# Altium schematic symbol library stm32h563rgt6.SchLib: 1 symbol
Pins are listed as number, name and electrical type; pins without a type are passive.

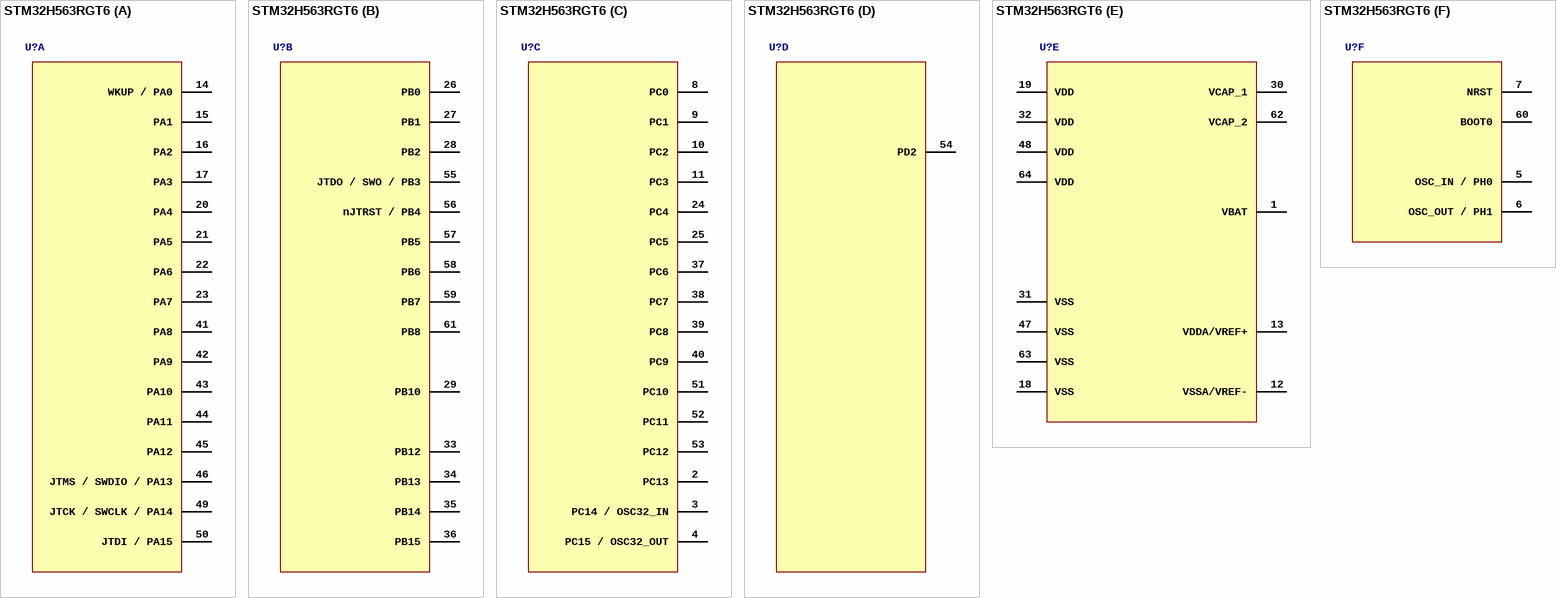
[diagram p0: symbol STM32H563RGT6]

## STM32H563RGT6
designator U?
ARM® Cortex®-M33 STM32H5 Microcontroller IC 32-Bit 250MHz 1MB (1M x 8) FLASH 64-LQFP (10x10)
part A pins: 14 WKUP / PA0, 15 PA1, 16 PA2, 17 PA3, 20 PA4, 21 PA5, 22 PA6, 23 PA7, 41 PA8, 42 PA9, 43 PA10, 44 PA11, 45 PA12, 46 JTMS / SWDIO / PA13, 49 JTCK / SWCLK / PA14, 50 JTDI / PA15
part B pins: 26 PB0, 27 PB1, 28 PB2, 29 PB10, 33 PB12, 34 PB13, 35 PB14, 36 PB15, 55 JTDO / SWO / PB3, 56 nJTRST / PB4, 57 PB5, 58 PB6, 59 PB7, 61 PB8
part C pins: 2 PC13, 3 PC14 / OSC32_IN, 4 PC15 / OSC32_OUT, 8 PC0, 9 PC1, 10 PC2, 11 PC3, 24 PC4, 25 PC5, 37 PC6, 38 PC7, 39 PC8, 40 PC9, 51 PC10, 52 PC11, 53 PC12
part D pins: 54 PD2
part E pins: 1 VBAT, 12 VSSA/VREF-, 13 VDDA/VREF+, 18 VSS, 19 VDD, 30 VCAP_1, 31 VSS, 32 VDD, 47 VSS, 48 VDD, 62 VCAP_2, 63 VSS, 64 VDD
part F pins: 5 OSC_IN / PH0, 6 OSC_OUT / PH1, 7 NRST, 60 BOOT0